# Altium schematic symbol library 744309033.SchLib: 1 symbol
Pins are listed as number, name and electrical type; pins without a type are passive.

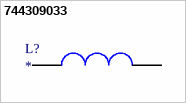
[diagram p0: symbol 744309033]

## 744309033
designator L?
pins: 1 (power), 2 (power)